# EAGLE library part HIH6131 (library PEGMA)
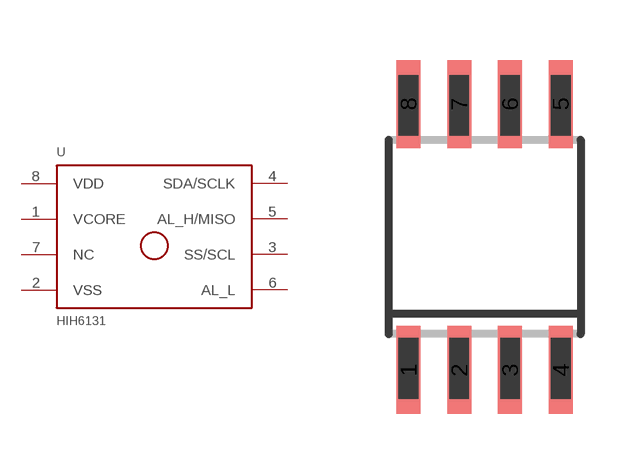
[diagram p6: symbol with the pads of SO-08M; footprint SO-08M]

Designator prefix -

## HIH6131  [SO-08M]
1  VCORE
2  VSS
3  SS/SCL
4  SDA/SCLK
5  AL_H/MISO
6  AL_L
7  NC
8  VDD

## Footprint SO-08M (pad centres in mm)
Small Outline Medium Plastic Gull Wing 207-mil body, package type SM
smd 0.6 x 2.2: 1 -1.905,-3.33; 2 -0.635,-3.33; 3 0.635,-3.33; 4 1.905,-3.33; 5 1.905,3.33; 6 0.635,3.33; 7 -0.635,3.33; 8 -1.905,3.33